# Altium footprint library Test_points.PcbLib: 7 footprints
Each footprint in its own frame and in the unit in brackets; x right, y up, seen from the top. Pads: shape width x height; smd on the part's side, far side on the other; paste and mask are expansions set on the pad; w line width, h text height; cw(c..) or ccw(c..) is an arc to the next point about the centre after c.
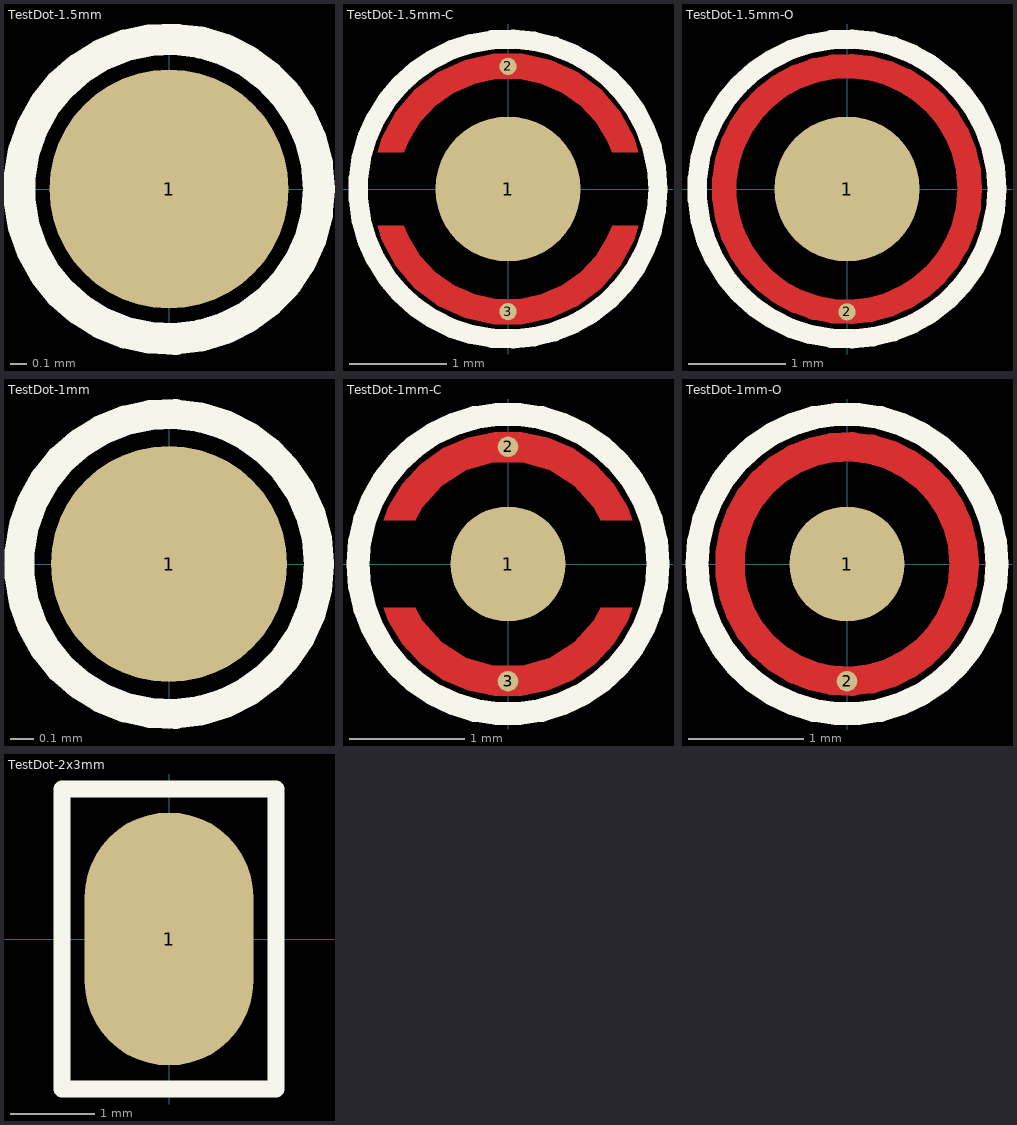
[diagram p0: the footprints below, top view; thin cyan lines are the x and y axes]

## TestDot-1.5mm [mm] "测试点"
pads (1):
  round 1.5 smd paste-1 mask+0.051: 1(0,0)
Top Overlay:
  circle w0.2: c0,0 r0.94

## TestDot-1.5mm-C [mil] "测试点"
pads (3):
  round 59.06 smd paste-39.37 mask+2: 1(0,0)
  round 7 smd paste-39.37 mask+2: 2(0,49.9) 3(0,-49.9)
Top Layer:
  region: -52.91,-15 -51.29,-20.73 -45.66,-31.23 -37.92,-40.28 -28.41,-47.47 -17.59,-52.45 -5.96,-55 5.96,-55 17.59,-52.45 28.41,-47.47 37.92,-40.28 45.66,-31.23 51.29,-20.73 52.91,-15 52.91,-15.01 42.42,-15.01 40.66,-19.27 35.89,-27.15 29.6,-33.89 22.08,-39.21 13.63,-42.89 4.61,-44.76 -4.61,-44.76 -13.63,-42.89 -22.08,-39.21 -29.6,-33.89 -35.89,-27.15 -40.66,-19.27 -42.42,-15.01 -42.43,-15
  region: 52.91,15 51.29,20.73 45.66,31.23 37.92,40.28 28.41,47.47 17.59,52.45 5.96,55 -5.96,55 -17.59,52.45 -28.41,47.47 -37.92,40.28 -45.66,31.23 -51.29,20.73 -52.91,15 -52.91,15.01 -42.42,15.01 -40.66,19.27 -35.89,27.15 -29.6,33.89 -22.08,39.21 -13.63,42.89 -4.61,44.76 4.61,44.76 13.63,42.89 22.08,39.21 29.6,33.89 35.89,27.15 40.66,19.27 42.42,15.01 42.43,15
Top Overlay:
  circle w7.87: c0,0 r61.02
Top Solder:
  region: -41.71,-14.01 41.71,-14.01 41.71,-18.12 40.11,-26.17 36.96,-33.77 32.4,-40.6 26.59,-46.41 19.76,-50.97 12.17,-54.12 4.11,-55.72 0,-55.72 0,-56 -4.12,-55.99 -12.2,-54.35 -19.81,-51.17 -26.65,-46.57 -32.46,-40.72 -37.02,-33.85 -40.15,-26.22 -41.73,-18.13
  region: -41.71,14 -41.71,14.01 41.71,14.01 41.71,18.11 40.11,26.17 36.97,33.76 32.4,40.6 26.59,46.41 19.76,50.97 12.17,54.12 4.11,55.72 0,55.72 0,56 -4.12,55.99 -12.2,54.35 -19.81,51.17 -26.65,46.57 -32.46,40.72 -37.02,33.85 -40.14,26.22 -41.73,18.13
  region: -54.22,-14.01 -52.68,-19.98 -47.06,-30.98 -39.17,-40.49 -29.41,-48.05 -18.23,-53.31 -6.18,-56 6.18,-56 18.23,-53.31 29.41,-48.05 39.17,-40.49 47.06,-30.98 52.68,-19.98 54.22,-14.01 54.22,-14 41.71,-14 40.03,-18.25 35.41,-26.12 29.26,-32.87 21.84,-38.19 13.49,-41.88 4.56,-43.76 -4.56,-43.76 -13.49,-41.88 -21.84,-38.19 -29.26,-32.87 -35.41,-26.12 -40.03,-18.25 -41.71,-14 -41.71,-14.01
  region: 54.22,14.01 52.68,19.98 47.06,30.98 39.17,40.49 29.41,48.05 18.23,53.31 6.18,56 -6.18,56 -18.23,53.31 -29.41,48.05 -39.17,40.49 -47.06,30.98 -52.68,19.98 -54.22,14.01 -54.22,14 -41.71,14 -40.03,18.25 -35.41,26.12 -29.26,32.87 -21.84,38.19 -13.49,41.88 -4.56,43.76 4.56,43.76 13.49,41.88 21.84,38.19 29.26,32.87 35.41,26.12 40.03,18.25 41.71,14 41.71,14.01

## TestDot-1.5mm-O [mil] "测试点"
pads (2):
  round 59.06 smd paste-39.37 mask+22: 1(0,0)
  round 7 smd paste-39.37 mask+2: 2(0,-50)
Top Layer:
  circle w10: c0,0 r50
Top Overlay:
  circle w7.87: c0,0 r61.02
Top Solder:
  circle w12: c0,0 r50

## TestDot-1mm [mm] "测试点"
pads (1):
  round 1 smd paste-1 mask+0.051: 1(0,0)
Top Overlay:
  circle w0.127: c0,0 r0.635

## TestDot-1mm-C [mil] "测试点"
pads (3):
  round 39.37 smd paste-39.37 mask+2: 1(0,0)
  round 7 smd paste-39.37 mask+2: 2(0,40) 3(0,-40)
Top Layer:
  region: -42.42,-15.01 -40.88,-19.37 -36.08,-27.3 -29.76,-34.07 -22.2,-39.42 -13.7,-43.11 -4.63,-45 4.63,-45 13.7,-43.11 22.2,-39.42 29.76,-34.07 36.08,-27.3 40.88,-19.37 42.42,-15.01 31.62,-15.01 29.2,-19.3 22.67,-26.66 14.36,-31.92 4.92,-34.65 -4.92,-34.65 -14.36,-31.92 -22.67,-26.66 -29.2,-19.3 -31.62,-15.01
  region: 42.42,15.01 40.88,19.37 36.08,27.3 29.76,34.07 22.2,39.42 13.7,43.11 4.63,45 -4.63,45 -13.7,43.11 -22.2,39.42 -29.76,34.07 -36.08,27.3 -40.88,19.37 -42.42,15.01 -31.62,15.01 -29.2,19.3 -22.67,26.66 -14.36,31.92 -4.92,34.65 4.92,34.65 14.36,31.92 22.67,26.66 29.2,19.3 31.62,15.01
Top Overlay:
  circle w7.87: c0,0 r51.18
Top Solder:
  region: -43.82,-14.01 -42.34,-18.63 -37.52,-27.05 -31.05,-34.29 -23.21,-40.01 -14.35,-43.97 -4.85,-46 4.85,-46 14.35,-43.97 23.21,-40.01 31.05,-34.29 37.52,-27.05 42.34,-18.63 43.82,-14.01 43.79,-13.99 30.97,-13.99 30.99,-13.99 28.67,-18.28 22.33,-25.64 14.17,-30.91 4.86,-33.65 -4.86,-33.65 -14.17,-30.91 -22.33,-25.64 -28.67,-18.28 -30.99,-13.99 -30.98,-14
  region: 43.82,14.01 42.34,18.63 37.52,27.05 31.05,34.29 23.21,40.01 14.35,43.97 4.85,46 -4.85,46 -14.35,43.97 -23.21,40.01 -31.05,34.29 -37.52,27.05 -42.34,18.63 -43.82,14.01 -43.79,13.99 -30.97,13.99 -30.99,13.99 -28.67,18.28 -22.33,25.64 -14.17,30.91 -4.86,33.65 4.86,33.65 14.17,30.91 22.33,25.64 28.67,18.28 30.99,13.99 30.98,14
  region: 30.99,13.99 -30.99,13.99 -30.99,17.05 -29.8,23.03 -27.46,28.67 -24.07,33.75 -19.75,38.06 -14.68,41.45 -9.04,43.79 -3.05,44.98 0,44.98 0,45 3.05,45 9.04,43.81 14.68,41.47 19.76,38.07 24.07,33.76 27.46,28.68 29.8,23.04 30.99,17.05
  region: 30.98,-14.01 -31,-14.01 -31,-17.06 -29.81,-23.04 -27.47,-28.68 -24.08,-33.76 -19.76,-38.07 -14.69,-41.47 -9.05,-43.8 -3.06,-44.99 -0.01,-44.99 -0.01,-45.01 3.04,-45.01 9.03,-43.82 14.67,-41.48 19.75,-38.09 24.06,-33.77 27.45,-28.69 29.79,-23.05 30.98,-17.06

## TestDot-1mm-O [mil] "测试点"
pads (2):
  round 39.37 smd paste-39.37 mask+22: 1(0,0)
  round 7 smd paste-39.37 mask+2: 2(0,-40)
Top Layer:
  circle w10: c0,0 r40
Top Overlay:
  circle w7.87: c0,0 r51.18
Top Solder:
  circle w12: c0,0 r40

## TestDot-2x3mm [mm] "测试点"
pads (1):
  oval 2x3 smd paste-1: 1(0,0)
Top Overlay:
  lines w0.2: -1.27,-1.778 -1.27,1.778 1.27,1.778 1.27,-1.778 -1.27,-1.778